# EAGLE library part METROMINI (library MetroMINI)
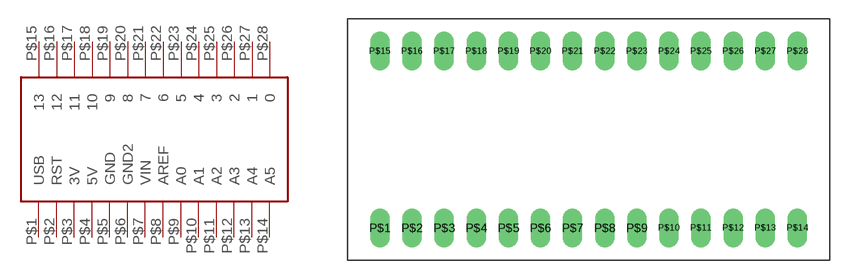
[diagram p1: symbol with the pads of METROMINI; footprint METROMINI]

Designator prefix -

## METROMINI  [METROMINI]
P$1  USB
P$2  RST
P$3  3V
P$4  5V
P$5  GND
P$6  GND2
P$7  VIN
P$8  AREF
P$9  A0
P$10  A1
P$11  A2
P$12  A3
P$13  A4
P$14  A5
P$15  13
P$16  12
P$17  11
P$18  10
P$19  9
P$20  8
P$21  7
P$22  6
P$23  5
P$24  4
P$25  3
P$26  2
P$27  1
P$28  0

## Footprint METROMINI (pad centres in mm)
drill 1.016 long: P$1 -11.43,0; P$2 -8.89,0; P$3 -6.35,0; P$4 -3.81,0; P$5 -1.27,0; P$6 1.27,0; P$7 3.81,0; P$8 6.35,0; P$9 8.89,0; P$10 11.43,0; P$11 13.97,0; P$12 16.51,0; P$13 19.05,0; P$14 21.59,0; P$15 -11.43,13.97; P$16 -8.89,13.97; P$17 -6.35,13.97; P$18 -3.81,13.97; P$19 -1.27,13.97; P$20 1.27,13.97; P$21 3.81,13.97; P$22 6.35,13.97; P$23 8.89,13.97; P$24 11.43,13.97; P$25 13.97,13.97; P$26 16.51,13.97; P$27 19.05,13.97; P$28 21.59,13.97